# EAGLE library part LM2574HV (library untitled)
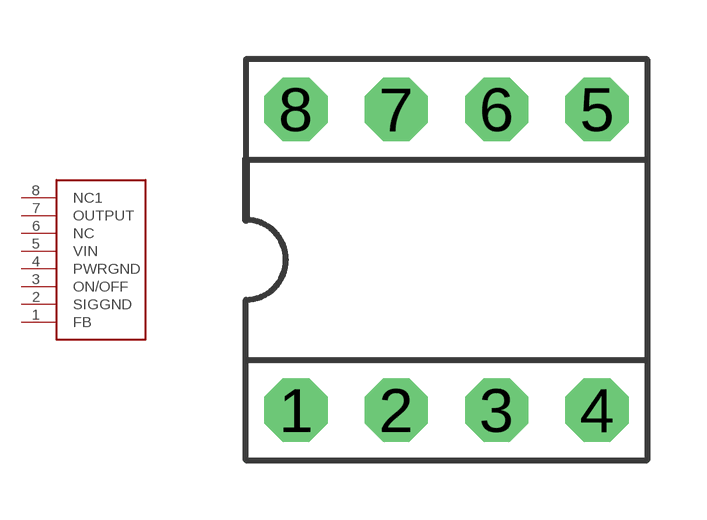
[diagram p4: symbol with the pads of DIL08; footprint DIL08]

Designator prefix -

## LM2574HV  [DIL08]
1  FB
2  SIGGND
3  ON/OFF
4  PWRGND
5  VIN
6  NC
7  OUTPUT
8  NC1

## Footprint DIL08 (pad centres in mm)
Dual In Line
drill 0.813 pad 1.6 octagon: 1 -3.81,-3.81; 2 -1.27,-3.81; 3 1.27,-3.81; 4 3.81,-3.81; 5 3.81,3.81; 6 1.27,3.81; 7 -1.27,3.81; 8 -3.81,3.81